# Altium footprint library Components.PcbLib: 18 footprints (part 1 of 2)
Each footprint in its own frame and in the unit in brackets; x right, y up, seen from the top. Pads: shape width x height; smd on the part's side, far side on the other; paste and mask are expansions set on the pad; w line width, h text height; cw(c..) or ccw(c..) is an arc to the next point about the centre after c.
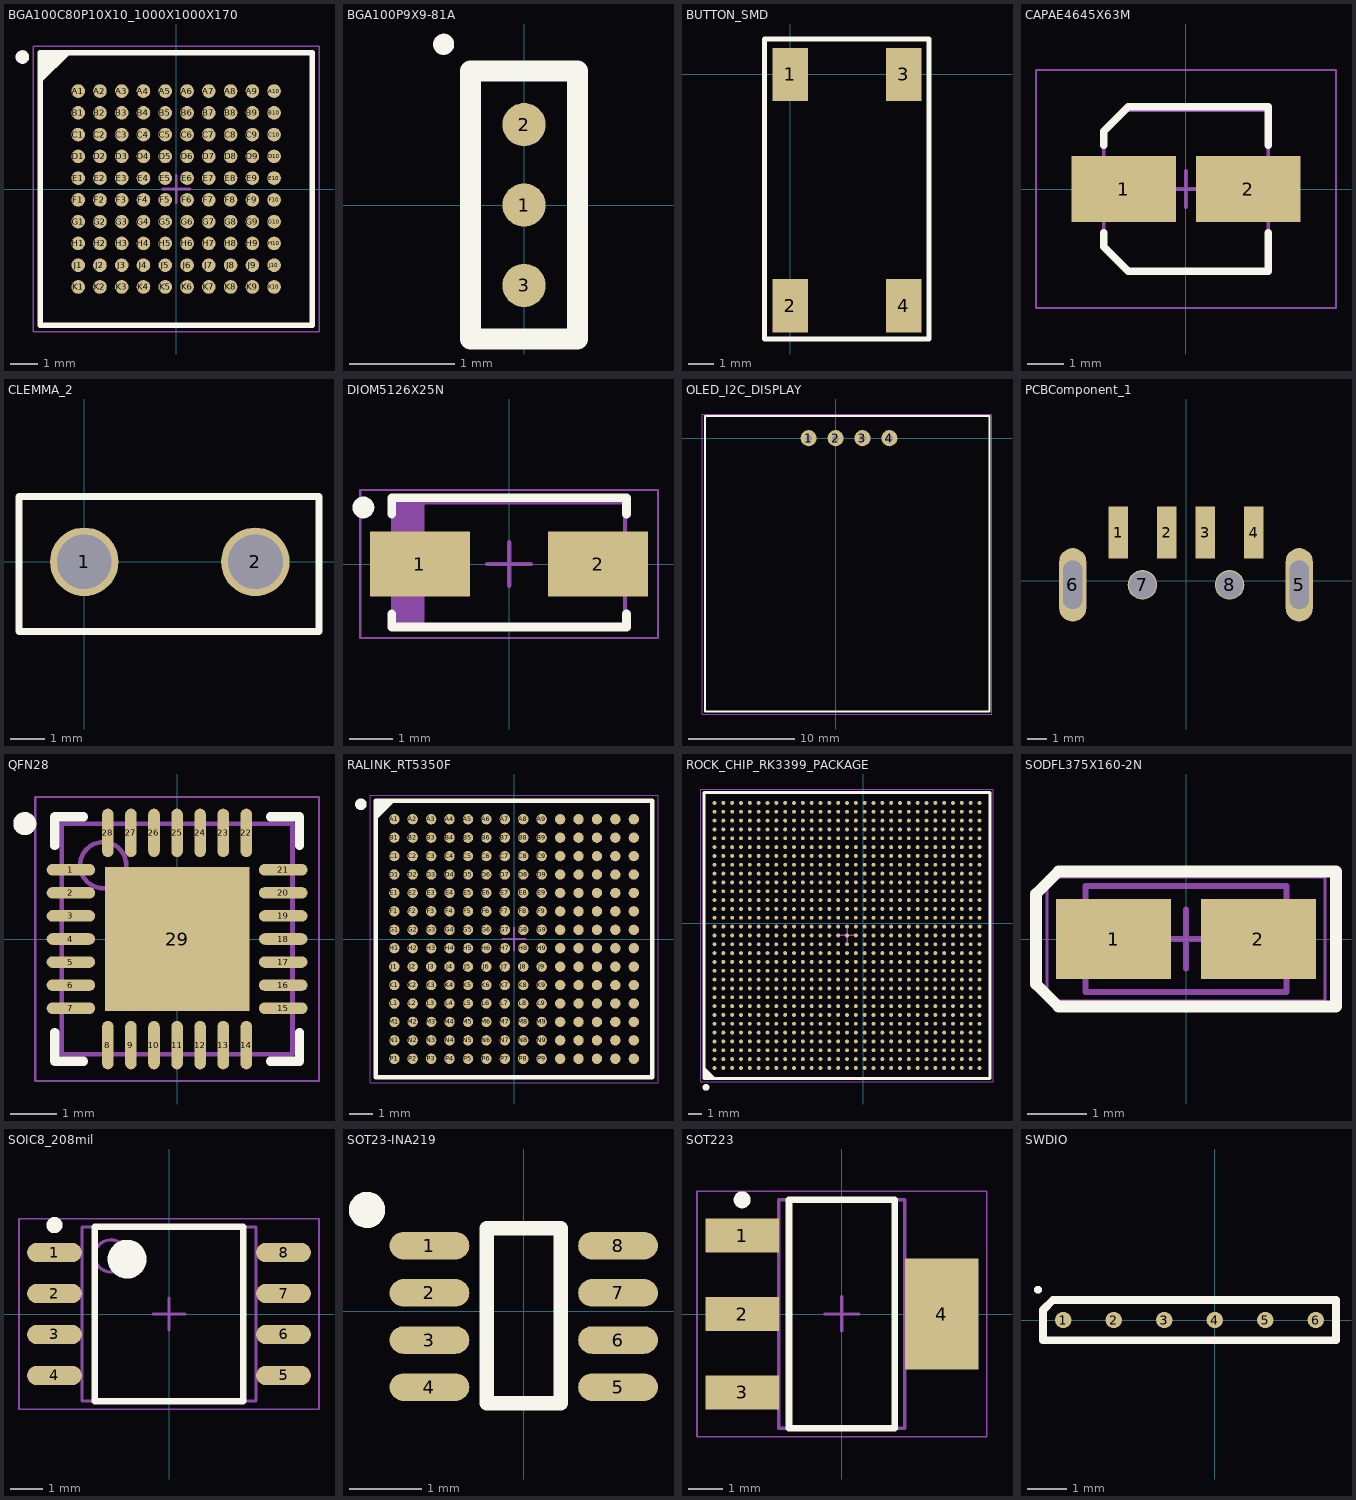
[diagram p0: the footprints below, top view; thin cyan lines are the x and y axes]

## BGA100C80P10X10_1000X1000X170 [mm] "BGA, 100-Leads, Body 10,00x10,00mmx1,70mm, Pitch 0,80mm"
height 1.7
pads (100):
  round 0.5 smd: A1(-3.6,3.6) A2(-2.8,3.6) A3(-2,3.6) A4(-1.2,3.6) A5(-0.4,3.6) A6(0.4,3.6) A7(1.2,3.6) A8(2,3.6) A9(2.8,3.6) A10(3.6,3.6) B1(-3.6,2.8) B2(-2.8,2.8) B3(-2,2.8) B4(-1.2,2.8) B5(-0.4,2.8) B6(0.4,2.8) B7(1.2,2.8) B8(2,2.8) B9(2.8,2.8) B10(3.6,2.8) C1(-3.6,2) C2(-2.8,2) C3(-2,2) C4(-1.2,2) C5(-0.4,2) C6(0.4,2) C7(1.2,2) C8(2,2) C9(2.8,2) C10(3.6,2) D1(-3.6,1.2) D2(-2.8,1.2) D3(-2,1.2) D4(-1.2,1.2) D5(-0.4,1.2) D6(0.4,1.2) D7(1.2,1.2) D8(2,1.2) D9(2.8,1.2) D10(3.6,1.2) E1(-3.6,0.4) E2(-2.8,0.4) E3(-2,0.4) E4(-1.2,0.4) E5(-0.4,0.4) E6(0.4,0.4) E7(1.2,0.4) E8(2,0.4) E9(2.8,0.4) E10(3.6,0.4) F1(-3.6,-0.4) F2(-2.8,-0.4) F3(-2,-0.4) F4(-1.2,-0.4) F5(-0.4,-0.4) F6(0.4,-0.4) F7(1.2,-0.4) F8(2,-0.4) F9(2.8,-0.4) F10(3.6,-0.4) G1(-3.6,-1.2) G2(-2.8,-1.2) G3(-2,-1.2) G4(-1.2,-1.2) G5(-0.4,-1.2) G6(0.4,-1.2) G7(1.2,-1.2) G8(2,-1.2) G9(2.8,-1.2) G10(3.6,-1.2) H1(-3.6,-2) H2(-2.8,-2) H3(-2,-2) H4(-1.2,-2) H5(-0.4,-2) H6(0.4,-2) H7(1.2,-2) H8(2,-2) H9(2.8,-2) H10(3.6,-2) J1(-3.6,-2.8) J2(-2.8,-2.8) J3(-2,-2.8) J4(-1.2,-2.8) J5(-0.4,-2.8) J6(0.4,-2.8) J7(1.2,-2.8) J8(2,-2.8) J9(2.8,-2.8) J10(3.6,-2.8) K1(-3.6,-3.6) K2(-2.8,-3.6) K3(-2,-3.6) K4(-1.2,-3.6) K5(-0.4,-3.6) K6(0.4,-3.6) K7(1.2,-3.6) K8(2,-3.6) K9(2.8,-3.6) K10(3.6,-3.6)
Top Overlay:
  circle w0.25: c-5.65,4.85 r0.125
  region: -4,5 -5,4 -5,5
  lines w0.2: -5,4 -4,5 ; -5,-5 -5,5 5,5 5,-5 -5,-5
Mechanical 13:
  lines w0.1: -5,-5 -5,5 5,5 5,-5 -5,-5
Mechanical 15:
  lines w0.05: -5.25,-5.25 -5.25,5.25 5.25,5.25 5.25,-5.25 -5.25,-5.25
  lines w0.1: -0.5,0 0.5,0 ; 0,-0.5 0,0.5
3D body "BGA100C80P10X10_1000X1000X170.step": height 1.7, standoff 0, extent -5,-5 5,5

## BGA100P9X9-81A [mm]
height 1.54
pads (3):
  round 0.41 smd: 1(0,0) 2(0,0.762) 3(0,-0.762)
Top Overlay:
  circle w0.1: c-0.762,1.524 r0.05
  lines w0.2: -0.508,-1.27 -0.508,1.27 0.508,1.27 0.508,-1.27 -0.508,-1.27

## BUTTON_SMD [mm] "6x6mm 1.5mm h"
pads (4):
  rect 1.4x2.1 smd: 1(0,0) 2(0,-9.1) 3(4.46,0) 4(4.46,-9.1)
Top Overlay:
  lines w0.2: -1.016,-10.414 -1.016,1.397 5.461,1.397 5.461,-10.414 -1.016,-10.414
3D body "BUTTON.STEP": height 5, standoff 0, extent -0.714,-9.445 5.286,0.555

## CAPAE4645X63M [mm] "Aluminum Electrolytic Capacitor, Body 4,50x4,50x6,30mm, IPC Low Density"
height 6.3
pads (2):
  rect 2.85x1.8 smd: 1(-1.7,0) 2(1.7,0)
Top Overlay:
  lines w0.2: -2.25,-1.2 -2.25,-1.575 -1.575,-2.25 2.25,-2.25 2.25,-1.2 ; -2.25,1.2 -2.25,1.575 -1.575,2.25 2.25,2.25 2.25,1.2
Mechanical 13:
  lines w0.1: -2.25,-1.575 -2.25,1.575 -1.666,2.159 2.25,2.159 2.25,-2.25 -1.575,-2.25 -2.25,-1.575
Mechanical 15:
  lines w0.05: -4.1,-3.25 4.1,-3.25 4.1,3.25 -4.1,3.25 -4.1,-3.25
  lines w0.1: -0.5,0 0.5,0 ; 0,-0.5 0,0.5
3D body "CAPAE4645X63M.step": height 6.3, standoff 0, extent -2.3,-2.25 2.3,2.25

## CLEMMA_2 [mm]
pads (2):
  round 2 hole 1.6: 1(0,0) 2(5,0)
Top Overlay:
  lines w0.2: -1.905,-2.032 -1.905,1.905 6.858,1.905 6.858,-2.032 -1.905,-2.032

## DIOM5126X25N [mm] "Molded Diode, 2-Leads, Body 5,14x2,56mm, IPC Medium Density"
height 2.5
pads (2):
  rect 2.3x1.5 smd: 1(-2.05,0) 2(2.05,0)
Top Overlay:
  circle w0.25: c-3.35,1.3 r0.125
  lines w0.2: -2.7,-1.15 -2.7,-1.45 2.7,-1.45 2.7,-1.15 ; -2.7,1.15 -2.7,1.524 2.7,1.524 2.7,1.15
Mechanical 13:
  rectangle: -2.665,-1.415 -1.948,1.415
  lines w0.1: -2.665,-1.415 2.665,-1.415 2.665,1.415 -2.665,1.415 -2.665,-1.415
Mechanical 15:
  lines w0.05: -3.425,-1.7 3.425,-1.7 3.425,1.7 -3.425,1.7 -3.425,-1.7
  lines w0.1: -0.5,0 0.5,0 ; 0,-0.5 0,0.5
3D body "DIOM5126X25N.step": height 2.5, standoff 0, extent -2.885,-1.415 2.885,1.415

## OLED_I2C_DISPLAY [mil] "OLED I2C"
pads (4):
  round 60 hole 25.2: 1(-100,0) 2(0,0) 3(100,0) 4(200,0)
Top Overlay:
  lines w7.87: -485,-1015 572.13,-1015 572.13,81.89 -485,81.89 -485,-1015
Mechanical 15:
  lines w1.97: -495,-1025 -495,90 580,90 580,-1025 -495,-1025
3D body: height 10, standoff 0, extent 500,30 500,30
3D body "OLED.STEP": height 372.94, standoff -54.06, extent -480.59,-1011.85 570.59,85

## PCBComponent_1 [mm]
pads (8):
  rect 1x2.7 smd: 1(-3.5,2.5) 2(-1,2.5) 3(1,2.5) 4(3.5,2.5)
  oval 1.4x3.8 hole 2.5 slot 1 at 0 deg: 5(5.85,-0.2) 6(-5.85,-0.2)
  round 1.524 hole 1.4 unplated: 7(-2.25,-0.2) 8(2.25,-0.2)
3D body "USB.stp": height 4.5, standoff -1.3, extent -6.303,-17.925 6.303,2

## QFN28 [mm]
height 0.9
pads (29):
  oval 1.05x0.25 smd: 1(-2.3,1.5) 2(-2.3,1) 3(-2.3,0.5) 4(-2.3,0) 5(-2.3,-0.5) 6(-2.3,-1) 7(-2.3,-1.5) 15(2.3,-1.5) 16(2.3,-1) 17(2.3,-0.5) 18(2.3,0) 19(2.3,0.5) 20(2.3,1) 21(2.3,1.5)
  oval 0.25x1.05 smd: 8(-1.5,-2.3) 9(-1,-2.3) 10(-0.5,-2.3) 11(0,-2.3) 12(0.5,-2.3) 13(1,-2.3) 14(1.5,-2.3) 22(1.5,2.3) 23(1,2.3) 24(0.5,2.3) 25(0,2.3) 26(-0.5,2.3) 27(-1,2.3) 28(-1.5,2.3)
  rect 3.13x3.13 smd: 29(0,0)
Top Overlay:
  circle w0.25: c-3.3,2.5 r0.125
  lines w0.2: -2.65,-2.025 -2.65,-2.65 -2.025,-2.65 ; -2.65,2.025 -2.65,2.65 -2.025,2.65 ; 2.025,-2.65 2.65,-2.65 2.65,-2.025 ; 2.025,2.65 2.65,2.65 2.65,2.025
Mechanical 13:
  circle w0.1: c-1.6,1.6 r0.5
  lines w0.1: -2.5,-2.5 2.5,-2.5 2.5,2.5 -2.5,2.5 -2.5,-2.5
Mechanical 15:
  lines w0.05: -3.075,-3.075 3.075,-3.075 3.075,3.075 -3.075,3.075 -3.075,-3.075
  lines w0.1: -0.5,0 0.5,0 ; 0,-0.5 0,0.5
3D body "QFN50P500X500X90_HS-29N.step": height 0.9, standoff 0, extent -2.52,-2.52 2.52,2.52

## RALINK_RT5350F [mm] "TFBGA196 PACKAGE"
height 1.4
pads (196):
  round 0.45 smd: A1(-5.2,5.2) A2(-4.4,5.2) A3(-3.6,5.2) A4(-2.8,5.2) A5(-2,5.2) A6(-1.2,5.2) A7(-0.4,5.2) A8(0.4,5.2) A9(1.2,5.2) A10(2,5.2) A11(2.8,5.2) A12(3.6,5.2) A13(4.4,5.2) A14(5.2,5.2) B1(-5.2,4.4) B2(-4.4,4.4) B3(-3.6,4.4) B4(-2.8,4.4) B5(-2,4.4) B6(-1.2,4.4) B7(-0.4,4.4) B8(0.4,4.4) B9(1.2,4.4) B10(2,4.4) B11(2.8,4.4) B12(3.6,4.4) B13(4.4,4.4) B14(5.2,4.4) C1(-5.2,3.6) C2(-4.4,3.6) C3(-3.6,3.6) C4(-2.8,3.6) C5(-2,3.6) C6(-1.2,3.6) C7(-0.4,3.6) C8(0.4,3.6) C9(1.2,3.6) C10(2,3.6) C11(2.8,3.6) C12(3.6,3.6) C13(4.4,3.6) C14(5.2,3.6) D1(-5.2,2.8) D2(-4.4,2.8) D3(-3.6,2.8) D4(-2.8,2.8) D5(-2,2.8) D6(-1.2,2.8) D7(-0.4,2.8) D8(0.4,2.8) D9(1.2,2.8) D10(2,2.8) D11(2.8,2.8) D12(3.6,2.8) D13(4.4,2.8) D14(5.2,2.8) E1(-5.2,2) E2(-4.4,2) E3(-3.6,2) E4(-2.8,2) E5(-2,2) E6(-1.2,2) E7(-0.4,2) E8(0.4,2) E9(1.2,2) E10(2,2) E11(2.8,2) E12(3.6,2) E13(4.4,2) E14(5.2,2) F1(-5.2,1.2) F2(-4.4,1.2) F3(-3.6,1.2) F4(-2.8,1.2) F5(-2,1.2) F6(-1.2,1.2) F7(-0.4,1.2) F8(0.4,1.2) F9(1.2,1.2) F10(2,1.2) F11(2.8,1.2) F12(3.6,1.2) F13(4.4,1.2) F14(5.2,1.2) G1(-5.2,0.4) G2(-4.4,0.4) G3(-3.6,0.4) G4(-2.8,0.4) G5(-2,0.4) G6(-1.2,0.4) G7(-0.4,0.4) G8(0.4,0.4) G9(1.2,0.4) G10(2,0.4) G11(2.8,0.4) G12(3.6,0.4) G13(4.4,0.4) G14(5.2,0.4) H1(-5.2,-0.4) H2(-4.4,-0.4) H3(-3.6,-0.4) H4(-2.8,-0.4) H5(-2,-0.4) H6(-1.2,-0.4) H7(-0.4,-0.4) H8(0.4,-0.4) H9(1.2,-0.4) H10(2,-0.4) H11(2.8,-0.4) H12(3.6,-0.4) H13(4.4,-0.4) H14(5.2,-0.4) J1(-5.2,-1.2) J2(-4.4,-1.2) J3(-3.6,-1.2) J4(-2.8,-1.2) J5(-2,-1.2) J6(-1.2,-1.2) J7(-0.4,-1.2) J8(0.4,-1.2) J9(1.2,-1.2) J10(2,-1.2) J11(2.8,-1.2) J12(3.6,-1.2) J13(4.4,-1.2) J14(5.2,-1.2) K1(-5.2,-2) K2(-4.4,-2) K3(-3.6,-2) K4(-2.8,-2) K5(-2,-2) K6(-1.2,-2) K7(-0.4,-2) K8(0.4,-2) K9(1.2,-2) K10(2,-2) K11(2.8,-2) K12(3.6,-2) K13(4.4,-2) K14(5.2,-2) L1(-5.2,-2.8) L2(-4.4,-2.8) L3(-3.6,-2.8) L4(-2.8,-2.8) L5(-2,-2.8) L6(-1.2,-2.8) L7(-0.4,-2.8) L8(0.4,-2.8) L9(1.2,-2.8) L10(2,-2.8) L11(2.8,-2.8) L12(3.6,-2.8) L13(4.4,-2.8) L14(5.2,-2.8) M1(-5.2,-3.6) M2(-4.4,-3.6) M3(-3.6,-3.6) M4(-2.8,-3.6) M5(-2,-3.6) M6(-1.2,-3.6) M7(-0.4,-3.6) M8(0.4,-3.6) M9(1.2,-3.6) M10(2,-3.6) M11(2.8,-3.6) M12(3.6,-3.6) M13(4.4,-3.6) M14(5.2,-3.6) N1(-5.2,-4.4) N2(-4.4,-4.4) N3(-3.6,-4.4) N4(-2.8,-4.4) N5(-2,-4.4) N6(-1.2,-4.4) N7(-0.4,-4.4) N8(0.4,-4.4) N9(1.2,-4.4) N10(2,-4.4) N11(2.8,-4.4) N12(3.6,-4.4) N13(4.4,-4.4) N14(5.2,-4.4) P1(-5.2,-5.2) P2(-4.4,-5.2) P3(-3.6,-5.2) P4(-2.8,-5.2) P5(-2,-5.2) P6(-1.2,-5.2) P7(-0.4,-5.2) P8(0.4,-5.2) P9(1.2,-5.2) P10(2,-5.2) P11(2.8,-5.2) P12(3.6,-5.2) P13(4.4,-5.2) P14(5.2,-5.2)
Top Overlay:
  circle w0.25: c-6.65,5.85 r0.125
  region: -5.284,6 -6,5.284 -6,6
  lines w0.2: -6,5.284 -5.284,6 ; -6,-6 -6,6 6,6 6,-6 -6,-6
Mechanical 13:
  lines w0.1: -6,-6 -6,6 6,6 6,-6 -6,-6
Mechanical 15:
  lines w0.05: -6.25,-6.25 -6.25,6.25 6.25,6.25 6.25,-6.25 -6.25,-6.25
  lines w0.1: -0.5,0 0.5,0 ; 0,-0.5 0,0.5
3D body "RALINK_RT5350F.step": height 1.4, standoff 0, extent -6,-6 6,6

## ROCK_CHIP_RK3399_PACKAGE [mm]
height 1.26
pads (961):
  round 0.29 smd: A1(-10.95,-10.65) A2(-10.95,-10) A3(-10.95,-9.35) A4(-10.95,-8.7) A5(-10.95,-8.05) A6(-10.95,-7.4) A7(-10.95,-6.75) A8(-10.95,-6.1) A9(-10.95,-5.45) A10(-10.95,-4.8) A11(-10.95,-4.15) A12(-10.95,-3.5) A13(-10.95,-2.85) A14(-10.95,-2.2) A15(-10.95,-1.55) A16(-10.95,-0.9) A17(-10.95,-0.25) A18(-10.95,0.4) A19(-10.95,1.05) A20(-10.95,1.7) A21(-10.95,2.35) A22(-10.95,3) A23(-10.95,3.65) A24(-10.95,4.3) A25(-10.95,4.95) A26(-10.95,5.6) A27(-10.95,6.25) A28(-10.95,6.9) A29(-10.95,7.55) A30(-10.95,8.2) A31(-10.95,8.85) AA1(2.05,-10.65) AA2(2.05,-10) AA3(2.05,-9.35) AA4(2.05,-8.7) AA5(2.05,-8.05) AA6(2.05,-7.4) AA7(2.05,-6.75) AA8(2.05,-6.1) AA9(2.05,-5.45) AA10(2.05,-4.8) AA11(2.05,-4.15) AA12(2.05,-3.5) AA13(2.05,-2.85) AA14(2.05,-2.2) AA15(2.05,-1.55) AA16(2.05,-0.9) AA17(2.05,-0.25) AA18(2.05,0.4) AA19(2.05,1.05) AA20(2.05,1.7) AA21(2.05,2.35) AA22(2.05,3) AA23(2.05,3.65) AA24(2.05,4.3) AA25(2.05,4.95) AA26(2.05,5.6) AA27(2.05,6.25) AA28(2.05,6.9) AA29(2.05,7.55) AA30(2.05,8.2) AA31(2.05,8.85) AB1(2.7,-10.65) AB2(2.7,-10) AB3(2.7,-9.35) AB4(2.7,-8.7) AB5(2.7,-8.05) AB6(2.7,-7.4) AB7(2.7,-6.75) AB8(2.7,-6.1) AB9(2.7,-5.45) AB10(2.7,-4.8) AB11(2.7,-4.15) AB12(2.7,-3.5) AB13(2.7,-2.85) AB14(2.7,-2.2) AB15(2.7,-1.55) AB16(2.7,-0.9) AB17(2.7,-0.25) AB18(2.7,0.4) AB19(2.7,1.05) AB20(2.7,1.7) AB21(2.7,2.35) AB22(2.7,3) AB23(2.7,3.65) AB24(2.7,4.3) AB25(2.7,4.95) AB26(2.7,5.6) AB27(2.7,6.25) AB28(2.7,6.9) AB29(2.7,7.55) AB30(2.7,8.2) AB31(2.7,8.85) AC1(3.35,-10.65) AC2(3.35,-10) AC3(3.35,-9.35) AC4(3.35,-8.7) AC5(3.35,-8.05) AC6(3.35,-7.4) AC7(3.35,-6.75) AC8(3.35,-6.1) AC9(3.35,-5.45) AC10(3.35,-4.8) AC11(3.35,-4.15) AC12(3.35,-3.5) AC13(3.35,-2.85) AC14(3.35,-2.2) AC15(3.35,-1.55) AC16(3.35,-0.9) AC17(3.35,-0.25) AC18(3.35,0.4) AC19(3.35,1.05) AC20(3.35,1.7) AC21(3.35,2.35) AC22(3.35,3) AC23(3.35,3.65) AC24(3.35,4.3) AC25(3.35,4.95) AC26(3.35,5.6) AC27(3.35,6.25) AC28(3.35,6.9) AC29(3.35,7.55) AC30(3.35,8.2) AC31(3.35,8.85) AD1(4,-10.65) AD2(4,-10) AD3(4,-9.35) AD4(4,-8.7) AD5(4,-8.05) AD6(4,-7.4) AD7(4,-6.75) AD8(4,-6.1) AD9(4,-5.45) AD10(4,-4.8) AD11(4,-4.15) AD12(4,-3.5) AD13(4,-2.85) AD14(4,-2.2) AD15(4,-1.55) AD16(4,-0.9) AD17(4,-0.25) AD18(4,0.4) AD19(4,1.05) AD20(4,1.7) AD21(4,2.35) AD22(4,3) AD23(4,3.65) AD24(4,4.3) AD25(4,4.95) AD26(4,5.6) AD27(4,6.25) AD28(4,6.9) AD29(4,7.55) AD30(4,8.2) AD31(4,8.85) AE1(4.65,-10.65) AE2(4.65,-10) AE3(4.65,-9.35) AE4(4.65,-8.7) AE5(4.65,-8.05) AE6(4.65,-7.4) AE7(4.65,-6.75) AE8(4.65,-6.1) AE9(4.65,-5.45) AE10(4.65,-4.8) AE11(4.65,-4.15) AE12(4.65,-3.5) AE13(4.65,-2.85) AE14(4.65,-2.2) AE15(4.65,-1.55) AE16(4.65,-0.9) AE17(4.65,-0.25) AE18(4.65,0.4) AE19(4.65,1.05) AE20(4.65,1.7) AE21(4.65,2.35) AE22(4.65,3) AE23(4.65,3.65) AE24(4.65,4.3) AE25(4.65,4.95) AE26(4.65,5.6) AE27(4.65,6.25) AE28(4.65,6.9) AE29(4.65,7.55) AE30(4.65,8.2) AE31(4.65,8.85) AF1(5.3,-10.65) AF2(5.3,-10) AF3(5.3,-9.35) AF4(5.3,-8.7) AF5(5.3,-8.05) AF6(5.3,-7.4) AF7(5.3,-6.75) AF8(5.3,-6.1) AF9(5.3,-5.45) AF10(5.3,-4.8) AF11(5.3,-4.15) AF12(5.3,-3.5) AF13(5.3,-2.85) AF14(5.3,-2.2) AF15(5.3,-1.55) AF16(5.3,-0.9) AF17(5.3,-0.25) AF18(5.3,0.4) AF19(5.3,1.05) AF20(5.3,1.7) AF21(5.3,2.35) AF22(5.3,3) AF23(5.3,3.65) AF24(5.3,4.3) AF25(5.3,4.95) AF26(5.3,5.6) AF27(5.3,6.25) AF28(5.3,6.9) AF29(5.3,7.55) AF30(5.3,8.2) AF31(5.3,8.85) AG1(5.95,-10.65) AG2(5.95,-10) AG3(5.95,-9.35) AG4(5.95,-8.7) AG5(5.95,-8.05) AG6(5.95,-7.4) AG7(5.95,-6.75) AG8(5.95,-6.1) AG9(5.95,-5.45) AG10(5.95,-4.8) AG11(5.95,-4.15) AG12(5.95,-3.5) AG13(5.95,-2.85) AG14(5.95,-2.2) AG15(5.95,-1.55) AG16(5.95,-0.9) AG17(5.95,-0.25) AG18(5.95,0.4) AG19(5.95,1.05) AG20(5.95,1.7) AG21(5.95,2.35) AG22(5.95,3) AG23(5.95,3.65) AG24(5.95,4.3) AG25(5.95,4.95) AG26(5.95,5.6) AG27(5.95,6.25) AG28(5.95,6.9) AG29(5.95,7.55) AG30(5.95,8.2) AG31(5.95,8.85) AH1(6.6,-10.65) AH2(6.6,-10) AH3(6.6,-9.35) AH4(6.6,-8.7) AH5(6.6,-8.05) AH6(6.6,-7.4) AH7(6.6,-6.75) AH8(6.6,-6.1) AH9(6.6,-5.45) AH10(6.6,-4.8) AH11(6.6,-4.15) AH12(6.6,-3.5) AH13(6.6,-2.85) AH14(6.6,-2.2) AH15(6.6,-1.55) AH16(6.6,-0.9) AH17(6.6,-0.25) AH18(6.6,0.4) AH19(6.6,1.05) AH20(6.6,1.7) AH21(6.6,2.35) AH22(6.6,3) AH23(6.6,3.65) AH24(6.6,4.3) AH25(6.6,4.95) AH26(6.6,5.6) AH27(6.6,6.25) AH28(6.6,6.9) AH29(6.6,7.55) AH30(6.6,8.2) AH31(6.6,8.85) AJ1(7.25,-10.65) AJ2(7.25,-10) AJ3(7.25,-9.35) AJ4(7.25,-8.7) AJ5(7.25,-8.05) AJ6(7.25,-7.4) AJ7(7.25,-6.75) AJ8(7.25,-6.1) AJ9(7.25,-5.45) AJ10(7.25,-4.8) AJ11(7.25,-4.15) AJ12(7.25,-3.5) AJ13(7.25,-2.85) AJ14(7.25,-2.2) AJ15(7.25,-1.55) AJ16(7.25,-0.9) AJ17(7.25,-0.25) AJ18(7.25,0.4) AJ19(7.25,1.05) AJ20(7.25,1.7) AJ21(7.25,2.35) AJ22(7.25,3) AJ23(7.25,3.65) AJ24(7.25,4.3) AJ25(7.25,4.95) AJ26(7.25,5.6) AJ27(7.25,6.25) AJ28(7.25,6.9) AJ29(7.25,7.55) AJ30(7.25,8.2) AJ31(7.25,8.85) AK1(7.9,-10.65) AK2(7.9,-10) AK3(7.9,-9.35) AK4(7.9,-8.7) AK5(7.9,-8.05) AK6(7.9,-7.4) AK7(7.9,-6.75) AK8(7.9,-6.1) AK9(7.9,-5.45) AK10(7.9,-4.8) AK11(7.9,-4.15) AK12(7.9,-3.5) AK13(7.9,-2.85) AK14(7.9,-2.2) AK15(7.9,-1.55) AK16(7.9,-0.9) AK17(7.9,-0.25) AK18(7.9,0.4) AK19(7.9,1.05) AK20(7.9,1.7) AK21(7.9,2.35) AK22(7.9,3) AK23(7.9,3.65) AK24(7.9,4.3) AK25(7.9,4.95) AK26(7.9,5.6) AK27(7.9,6.25) AK28(7.9,6.9) AK29(7.9,7.55) AK30(7.9,8.2) AK31(7.9,8.85) AL1(8.55,-10.65) AL2(8.55,-10) AL3(8.55,-9.35) AL4(8.55,-8.7) AL5(8.55,-8.05) AL6(8.55,-7.4) AL7(8.55,-6.75) AL8(8.55,-6.1) AL9(8.55,-5.45) AL10(8.55,-4.8) AL11(8.55,-4.15) AL12(8.55,-3.5) AL13(8.55,-2.85) AL14(8.55,-2.2) AL15(8.55,-1.55) AL16(8.55,-0.9) AL17(8.55,-0.25) AL18(8.55,0.4) AL19(8.55,1.05) AL20(8.55,1.7) AL21(8.55,2.35) AL22(8.55,3) AL23(8.55,3.65) AL24(8.55,4.3) AL25(8.55,4.95) AL26(8.55,5.6) AL27(8.55,6.25) AL28(8.55,6.9) AL29(8.55,7.55) AL30(8.55,8.2) AL31(8.55,8.85) B1(-10.3,-10.65) B2(-10.3,-10) B3(-10.3,-9.35) B4(-10.3,-8.7) B5(-10.3,-8.05) B6(-10.3,-7.4) B7(-10.3,-6.75) B8(-10.3,-6.1) B9(-10.3,-5.45) B10(-10.3,-4.8) B11(-10.3,-4.15) B12(-10.3,-3.5) B13(-10.3,-2.85) B14(-10.3,-2.2) B15(-10.3,-1.55) B16(-10.3,-0.9) B17(-10.3,-0.25) B18(-10.3,0.4) B19(-10.3,1.05) B20(-10.3,1.7) B21(-10.3,2.35) B22(-10.3,3) B23(-10.3,3.65) B24(-10.3,4.3) B25(-10.3,4.95) B26(-10.3,5.6) B27(-10.3,6.25) B28(-10.3,6.9) B29(-10.3,7.55) B30(-10.3,8.2) B31(-10.3,8.85) C1(-9.65,-10.65) C2(-9.65,-10) C3(-9.65,-9.35) C4(-9.65,-8.7) C5(-9.65,-8.05) C6(-9.65,-7.4) C7(-9.65,-6.75) C8(-9.65,-6.1) C9(-9.65,-5.45) C10(-9.65,-4.8) C11(-9.65,-4.15) C12(-9.65,-3.5) C13(-9.65,-2.85) C14(-9.65,-2.2) C15(-9.65,-1.55) C16(-9.65,-0.9) C17(-9.65,-0.25) C18(-9.65,0.4) C19(-9.65,1.05) C20(-9.65,1.7) C21(-9.65,2.35) C22(-9.65,3) C23(-9.65,3.65) C24(-9.65,4.3) C25(-9.65,4.95) C26(-9.65,5.6) C27(-9.65,6.25) C28(-9.65,6.9) C29(-9.65,7.55) C30(-9.65,8.2) C31(-9.65,8.85) D1(-9,-10.65) D2(-9,-10) D3(-9,-9.35) D4(-9,-8.7) D5(-9,-8.05) D6(-9,-7.4) D7(-9,-6.75) D8(-9,-6.1) D9(-9,-5.45) D10(-9,-4.8) D11(-9,-4.15) D12(-9,-3.5) D13(-9,-2.85) D14(-9,-2.2) D15(-9,-1.55) D16(-9,-0.9) D17(-9,-0.25) D18(-9,0.4) D19(-9,1.05) D20(-9,1.7) D21(-9,2.35) D22(-9,3) D23(-9,3.65) D24(-9,4.3) D25(-9,4.95) D26(-9,5.6) D27(-9,6.25) D28(-9,6.9) D29(-9,7.55) D30(-9,8.2) D31(-9,8.85) E1(-8.35,-10.65) E2(-8.35,-10) E3(-8.35,-9.35) E4(-8.35,-8.7) E5(-8.35,-8.05) E6(-8.35,-7.4) E7(-8.35,-6.75) E8(-8.35,-6.1) E9(-8.35,-5.45) E10(-8.35,-4.8) E11(-8.35,-4.15) E12(-8.35,-3.5) E13(-8.35,-2.85) E14(-8.35,-2.2) E15(-8.35,-1.55) E16(-8.35,-0.9) E17(-8.35,-0.25) E18(-8.35,0.4) E19(-8.35,1.05) E20(-8.35,1.7) E21(-8.35,2.35) E22(-8.35,3) E23(-8.35,3.65) E24(-8.35,4.3) E25(-8.35,4.95) E26(-8.35,5.6) E27(-8.35,6.25) E28(-8.35,6.9) E29(-8.35,7.55) E30(-8.35,8.2) E31(-8.35,8.85) F1(-7.7,-10.65) F2(-7.7,-10) F3(-7.7,-9.35) F4(-7.7,-8.7) F5(-7.7,-8.05) F6(-7.7,-7.4) F7(-7.7,-6.75) F8(-7.7,-6.1) F9(-7.7,-5.45) F10(-7.7,-4.8) F11(-7.7,-4.15) F12(-7.7,-3.5) F13(-7.7,-2.85) F14(-7.7,-2.2) F15(-7.7,-1.55) F16(-7.7,-0.9) F17(-7.7,-0.25) F18(-7.7,0.4) F19(-7.7,1.05) F20(-7.7,1.7) F21(-7.7,2.35) F22(-7.7,3) F23(-7.7,3.65) F24(-7.7,4.3) F25(-7.7,4.95) F26(-7.7,5.6) F27(-7.7,6.25) F28(-7.7,6.9) F29(-7.7,7.55) F30(-7.7,8.2) F31(-7.7,8.85) G1(-7.05,-10.65) G2(-7.05,-10) G3(-7.05,-9.35) G4(-7.05,-8.7) G5(-7.05,-8.05) G6(-7.05,-7.4) G7(-7.05,-6.75) G8(-7.05,-6.1) G9(-7.05,-5.45) G10(-7.05,-4.8) G11(-7.05,-4.15) G12(-7.05,-3.5) G13(-7.05,-2.85) G14(-7.05,-2.2) G15(-7.05,-1.55) G16(-7.05,-0.9) G17(-7.05,-0.25) G18(-7.05,0.4) G19(-7.05,1.05) G20(-7.05,1.7) G21(-7.05,2.35) G22(-7.05,3) G23(-7.05,3.65) G24(-7.05,4.3) G25(-7.05,4.95) G26(-7.05,5.6) G27(-7.05,6.25) G28(-7.05,6.9) G29(-7.05,7.55) G30(-7.05,8.2) G31(-7.05,8.85) H1(-6.4,-10.65) H2(-6.4,-10) H3(-6.4,-9.35) H4(-6.4,-8.7) H5(-6.4,-8.05) H6(-6.4,-7.4) H7(-6.4,-6.75) H8(-6.4,-6.1) H9(-6.4,-5.45) H10(-6.4,-4.8) H11(-6.4,-4.15) H12(-6.4,-3.5) H13(-6.4,-2.85) H14(-6.4,-2.2) H15(-6.4,-1.55) H16(-6.4,-0.9) H17(-6.4,-0.25) H18(-6.4,0.4) H19(-6.4,1.05) H20(-6.4,1.7) H21(-6.4,2.35) H22(-6.4,3) H23(-6.4,3.65) H24(-6.4,4.3) H25(-6.4,4.95) H26(-6.4,5.6) H27(-6.4,6.25) H28(-6.4,6.9) H29(-6.4,7.55) H30(-6.4,8.2) H31(-6.4,8.85) J1(-5.75,-10.65) J2(-5.75,-10) J3(-5.75,-9.35) J4(-5.75,-8.7) J5(-5.75,-8.05) J6(-5.75,-7.4) J7(-5.75,-6.75) J8(-5.75,-6.1) J9(-5.75,-5.45) J10(-5.75,-4.8) J11(-5.75,-4.15) J12(-5.75,-3.5) J13(-5.75,-2.85) J14(-5.75,-2.2) J15(-5.75,-1.55) J16(-5.75,-0.9) J17(-5.75,-0.25) J18(-5.75,0.4) J19(-5.75,1.05) J20(-5.75,1.7) J21(-5.75,2.35) J22(-5.75,3) J23(-5.75,3.65) J24(-5.75,4.3) J25(-5.75,4.95) J26(-5.75,5.6) J27(-5.75,6.25) J28(-5.75,6.9) J29(-5.75,7.55) J30(-5.75,8.2) J31(-5.75,8.85) K1(-5.1,-10.65) K2(-5.1,-10) K3(-5.1,-9.35) K4(-5.1,-8.7) K5(-5.1,-8.05) K6(-5.1,-7.4) K7(-5.1,-6.75) K8(-5.1,-6.1) K9(-5.1,-5.45) K10(-5.1,-4.8) K11(-5.1,-4.15) K12(-5.1,-3.5) K13(-5.1,-2.85) K14(-5.1,-2.2) K15(-5.1,-1.55) K16(-5.1,-0.9) K17(-5.1,-0.25) K18(-5.1,0.4) K19(-5.1,1.05) K20(-5.1,1.7) K21(-5.1,2.35) K22(-5.1,3) K23(-5.1,3.65) K24(-5.1,4.3) K25(-5.1,4.95) K26(-5.1,5.6) K27(-5.1,6.25) K28(-5.1,6.9) K29(-5.1,7.55) K30(-5.1,8.2) K31(-5.1,8.85) L1(-4.45,-10.65) L2(-4.45,-10) L3(-4.45,-9.35) L4(-4.45,-8.7) L5(-4.45,-8.05) L6(-4.45,-7.4) L7(-4.45,-6.75) L8(-4.45,-6.1) L9(-4.45,-5.45) L10(-4.45,-4.8) L11(-4.45,-4.15) L12(-4.45,-3.5) L13(-4.45,-2.85) L14(-4.45,-2.2) L15(-4.45,-1.55) L16(-4.45,-0.9) L17(-4.45,-0.25) L18(-4.45,0.4) L19(-4.45,1.05) L20(-4.45,1.7) L21(-4.45,2.35) L22(-4.45,3) L23(-4.45,3.65) L24(-4.45,4.3) L25(-4.45,4.95) L26(-4.45,5.6) L27(-4.45,6.25) L28(-4.45,6.9) L29(-4.45,7.55) L30(-4.45,8.2) L31(-4.45,8.85) M1(-3.8,-10.65) M2(-3.8,-10) M3(-3.8,-9.35) M4(-3.8,-8.7) M5(-3.8,-8.05) M6(-3.8,-7.4) M7(-3.8,-6.75) M8(-3.8,-6.1) M9(-3.8,-5.45) M10(-3.8,-4.8) M11(-3.8,-4.15) M12(-3.8,-3.5) M13(-3.8,-2.85) M14(-3.8,-2.2) M15(-3.8,-1.55) M16(-3.8,-0.9) M17(-3.8,-0.25) M18(-3.8,0.4) M19(-3.8,1.05) M20(-3.8,1.7) M21(-3.8,2.35) M22(-3.8,3) M23(-3.8,3.65) M24(-3.8,4.3) M25(-3.8,4.95) M26(-3.8,5.6) M27(-3.8,6.25) M28(-3.8,6.9) M29(-3.8,7.55) M30(-3.8,8.2) M31(-3.8,8.85) N1(-3.15,-10.65) N2(-3.15,-10) N3(-3.15,-9.35) N4(-3.15,-8.7) N5(-3.15,-8.05) N6(-3.15,-7.4) N7(-3.15,-6.75) N8(-3.15,-6.1) N9(-3.15,-5.45) N10(-3.15,-4.8) N11(-3.15,-4.15) N12(-3.15,-3.5) N13(-3.15,-2.85) N14(-3.15,-2.2) N15(-3.15,-1.55) N16(-3.15,-0.9) N17(-3.15,-0.25) N18(-3.15,0.4) N19(-3.15,1.05) N20(-3.15,1.7) N21(-3.15,2.35) N22(-3.15,3) N23(-3.15,3.65) N24(-3.15,4.3) N25(-3.15,4.95) N26(-3.15,5.6) N27(-3.15,6.25) N28(-3.15,6.9) N29(-3.15,7.55) N30(-3.15,8.2) N31(-3.15,8.85) P1(-2.5,-10.65) P2(-2.5,-10) P3(-2.5,-9.35) P4(-2.5,-8.7) P5(-2.5,-8.05) P6(-2.5,-7.4) P7(-2.5,-6.75) P8(-2.5,-6.1) P9(-2.5,-5.45) P10(-2.5,-4.8) P11(-2.5,-4.15) P12(-2.5,-3.5) P13(-2.5,-2.85) P14(-2.5,-2.2) P15(-2.5,-1.55) P16(-2.5,-0.9) P17(-2.5,-0.25) P18(-2.5,0.4) P19(-2.5,1.05) P20(-2.5,1.7) P21(-2.5,2.35) P22(-2.5,3) P23(-2.5,3.65) P24(-2.5,4.3) P25(-2.5,4.95) P26(-2.5,5.6) P27(-2.5,6.25) P28(-2.5,6.9) P29(-2.5,7.55) P30(-2.5,8.2) P31(-2.5,8.85) R1(-1.85,-10.65) R2(-1.85,-10) R3(-1.85,-9.35) R4(-1.85,-8.7) R5(-1.85,-8.05) R6(-1.85,-7.4) R7(-1.85,-6.75) R8(-1.85,-6.1) R9(-1.85,-5.45) R10(-1.85,-4.8) R11(-1.85,-4.15) R12(-1.85,-3.5) R13(-1.85,-2.85) R14(-1.85,-2.2) R15(-1.85,-1.55) R16(-1.85,-0.9) R17(-1.85,-0.25) R18(-1.85,0.4) R19(-1.85,1.05) R20(-1.85,1.7) R21(-1.85,2.35) R22(-1.85,3) R23(-1.85,3.65) R24(-1.85,4.3) R25(-1.85,4.95) R26(-1.85,5.6) R27(-1.85,6.25) R28(-1.85,6.9) R29(-1.85,7.55) R30(-1.85,8.2) R31(-1.85,8.85) T1(-1.2,-10.65) T2(-1.2,-10) T3(-1.2,-9.35) T4(-1.2,-8.7) T5(-1.2,-8.05) T6(-1.2,-7.4) T7(-1.2,-6.75) T8(-1.2,-6.1) T9(-1.2,-5.45) T10(-1.2,-4.8) T11(-1.2,-4.15) T12(-1.2,-3.5) T13(-1.2,-2.85) T14(-1.2,-2.2) T15(-1.2,-1.55) T16(-1.2,-0.9) T17(-1.2,-0.25) T18(-1.2,0.4) T19(-1.2,1.05) T20(-1.2,1.7) T21(-1.2,2.35) T22(-1.2,3) T23(-1.2,3.65) T24(-1.2,4.3) T25(-1.2,4.95) T26(-1.2,5.6) T27(-1.2,6.25) T28(-1.2,6.9) T29(-1.2,7.55) T30(-1.2,8.2) T31(-1.2,8.85) U1(-0.55,-10.65) U2(-0.55,-10) U3(-0.55,-9.35) U4(-0.55,-8.7) U5(-0.55,-8.05) U6(-0.55,-7.4) U7(-0.55,-6.75) U8(-0.55,-6.1) U9(-0.55,-5.45) U10(-0.55,-4.8) U11(-0.55,-4.15) U12(-0.55,-3.5) U13(-0.55,-2.85) U14(-0.55,-2.2) U15(-0.55,-1.55) U16(-0.55,-0.9) U17(-0.55,-0.25) U18(-0.55,0.4) U19(-0.55,1.05) U20(-0.55,1.7) U21(-0.55,2.35) U22(-0.55,3) U23(-0.55,3.65) U24(-0.55,4.3) U25(-0.55,4.95) U26(-0.55,5.6) U27(-0.55,6.25) U28(-0.55,6.9) U29(-0.55,7.55) U30(-0.55,8.2) U31(-0.55,8.85) V1(0.1,-10.65) V2(0.1,-10) V3(0.1,-9.35) V4(0.1,-8.7) V5(0.1,-8.05) V6(0.1,-7.4) V7(0.1,-6.75) V8(0.1,-6.1) V9(0.1,-5.45) V10(0.1,-4.8) V11(0.1,-4.15) V12(0.1,-3.5) V13(0.1,-2.85) V14(0.1,-2.2) V15(0.1,-1.55) V16(0.1,-0.9) V17(0.1,-0.25) V18(0.1,0.4) V19(0.1,1.05) V20(0.1,1.7) V21(0.1,2.35) V22(0.1,3) V23(0.1,3.65) V24(0.1,4.3) V25(0.1,4.95) V26(0.1,5.6) V27(0.1,6.25) V28(0.1,6.9) V29(0.1,7.55) V30(0.1,8.2) V31(0.1,8.85) W1(0.75,-10.65) W2(0.75,-10) W3(0.75,-9.35) W4(0.75,-8.7) W5(0.75,-8.05) W6(0.75,-7.4) W7(0.75,-6.75) W8(0.75,-6.1) W9(0.75,-5.45) W10(0.75,-4.8) W11(0.75,-4.15) W12(0.75,-3.5) W13(0.75,-2.85) W14(0.75,-2.2) W15(0.75,-1.55) W16(0.75,-0.9) W17(0.75,-0.25) W18(0.75,0.4) W19(0.75,1.05) W20(0.75,1.7) W21(0.75,2.35) W22(0.75,3) W23(0.75,3.65) W24(0.75,4.3) W25(0.75,4.95) W26(0.75,5.6) W27(0.75,6.25) W28(0.75,6.9) W29(0.75,7.55) W30(0.75,8.2) W31(0.75,8.85) Y1(1.4,-10.65) Y2(1.4,-10) Y3(1.4,-9.35) Y4(1.4,-8.7) Y5(1.4,-8.05) Y6(1.4,-7.4) Y7(1.4,-6.75) Y8(1.4,-6.1) Y9(1.4,-5.45) Y10(1.4,-4.8) Y11(1.4,-4.15) Y12(1.4,-3.5) Y13(1.4,-2.85) Y14(1.4,-2.2) Y15(1.4,-1.55) Y16(1.4,-0.9) Y17(1.4,-0.25) Y18(1.4,0.4) Y19(1.4,1.05) Y20(1.4,1.7) Y21(1.4,2.35) Y22(1.4,3) Y23(1.4,3.65) Y24(1.4,4.3) Y25(1.4,4.95) Y26(1.4,5.6) Y27(1.4,6.25) Y28(1.4,6.9) Y29(1.4,7.55) Y30(1.4,8.2) Y31(1.4,8.85)
Top Overlay:
  circle w0.25: c-11.575,-12.075 r0.125
  region: -11.725,-10.646 -10.946,-11.425 -11.725,-11.425
  lines w0.2: -11.725,-10.646 -10.946,-11.425 ; -11.725,-11.425 9.325,-11.425 9.325,9.625 -11.725,9.625 -11.725,-11.425
Mechanical 13:
  lines w0.1: -11.715,-11.415 9.315,-11.415 9.315,9.615 -11.715,9.615 -11.715,-11.415
Mechanical 15:
  lines w0.05: -11.975,-11.675 9.575,-11.675 9.575,9.875 -11.975,9.875 -11.975,-11.675
  lines w0.1: -1.7,-0.9 -0.7,-0.9 ; -1.2,-1.4 -1.2,-0.4
3D body "BGA961C65P31X31_2102X2102X126.step": height 1.26, standoff 0, extent -11.715,-11.415 9.315,9.615

## SODFL375X160-2N [mm] "SODFL, 2-Leads, Body 1,70x3,75mm, IPC Medium Density"
height 1.6
pads (2):
  rect 1.95x1.35 smd: 1(-1.225,0) 2(1.225,0)
Top Overlay:
  lines w0.2: -2.54,-0.762 -2.159,-1.143 2.54,-1.143 2.54,1.143 -2.159,1.143 -2.54,0.762 -2.54,-0.762
Mechanical 13:
  lines w0.1: -1.7,-0.9 -1.7,0.9 1.7,0.9 1.7,-0.9 -1.7,-0.9
Mechanical 15:
  lines w0.05: -2.35,-1.05 -2.35,1.05 2.35,1.05 2.35,-1.05 -2.35,-1.05
  lines w0.1: -0.5,0 0.5,0 ; 0,-0.5 0,0.5
3D body "SODFL375X160-2N.step": height 1.6, standoff 0, extent -1.875,-0.9 1.875,0.9

## SOIC8_208mil [mm]
height 1.95
pads (8):
  oval 1.7x0.6 smd: 1(-3.55,1.905) 2(-3.55,0.635) 3(-3.55,-0.635) 4(-3.55,-1.905) 5(3.55,-1.905) 6(3.55,-0.635) 7(3.55,0.635) 8(3.55,1.905)
Top Overlay:
  circle w0.25: c-3.55,2.755 r0.125
  circle w0.6: c-1.3,1.7 r0.3
  lines w0.2: -2.3,-2.7 -2.3,2.7 2.3,2.7 2.3,-2.7 -2.3,-2.7
Mechanical 13:
  circle w0.1: c-1.8,1.8 r0.5
  lines w0.1: -2.7,-2.7 -2.7,2.7 2.7,2.7 2.7,-2.7 -2.7,-2.7
Mechanical 15:
  lines w0.05: -4.65,-2.95 -4.65,2.95 4.65,2.95 4.65,-2.95 -4.65,-2.95
  lines w0.1: -0.5,0 0.5,0 ; 0,-0.5 0,0.5
3D body "SOIC127P790X195-8N.step": height 1.95, standoff 0, extent -3.95,-2.7 3.95,2.7

## SOT23-INA219 [mm]
pads (8):
  oval 1.1x0.38 smd: 1(-1.3,0.904) 2(-1.3,0.254) 3(-1.3,-0.396) 4(-1.3,-1.046) 5(1.3,-1.046) 6(1.3,-0.396) 7(1.3,0.254) 8(1.3,0.904)
Top Overlay:
  circle w0.25: c-2.159,1.397 r0.125
  lines w0.2: -0.508,-1.27 -0.508,1.143 -0.191,1.143 -0.095,1.143 0.095,1.143 0.191,1.143 0.508,1.143 0.508,-1.27 -0.508,-1.27
3D body: height 0.25, standoff 0, extent -1.143,-1.524 1.143,1.394

## SOT223 [mm]
height 1.8
pads (4):
  rect 2.15x1 smd: 1(-2.925,2.3) 2(-2.925,0) 3(-2.925,-2.3)
  rect 2.15x3.25 smd: 4(2.925,0)
Top Overlay:
  circle w0.25: c-2.925,3.35 r0.125
  lines w0.2: -1.55,-3.35 1.55,-3.35 1.55,3.35 -1.55,3.35 -1.55,-3.35
Mechanical 13:
  lines w0.1: -1.85,-3.35 1.85,-3.35 1.85,3.35 -1.85,3.35 -1.85,-3.35
Mechanical 15:
  lines w0.05: -4.25,-3.6 4.25,-3.6 4.25,3.6 -4.25,3.6 -4.25,-3.6
  lines w0.1: -0.5,0 0.5,0 ; 0,-0.5 0,0.5
3D body "SOT230P700X180-4N.step": height 1.8, standoff 0, extent -3.5,-3.35 3.5,3.35

## SWDIO [mm] "SWDIO Interface"
pads (7):
  round 0.41 smd: 1(-3.81,0) 2(-2.54,0) 3(-1.27,0) 3(-1.27,0) 4(0,0) 5(1.27,0) 6(2.54,0)
Top Overlay:
  circle w0.1: c-4.445,0.762 r0.05
  lines w0.2: -4.318,-0.508 3.048,-0.508 3.048,0.508 -4.064,0.508 -4.318,0.254 -4.318,-0.508